# Altium footprint library J1021CS312VDCP20.PcbLib: 1 footprints
Each footprint in its own frame and in the unit in brackets; x right, y up, seen from the top. Pads: shape width x height; smd on the part's side, far side on the other; paste and mask are expansions set on the pad; w line width, h text height; cw(c..) or ccw(c..) is an arc to the next point about the centre after c.
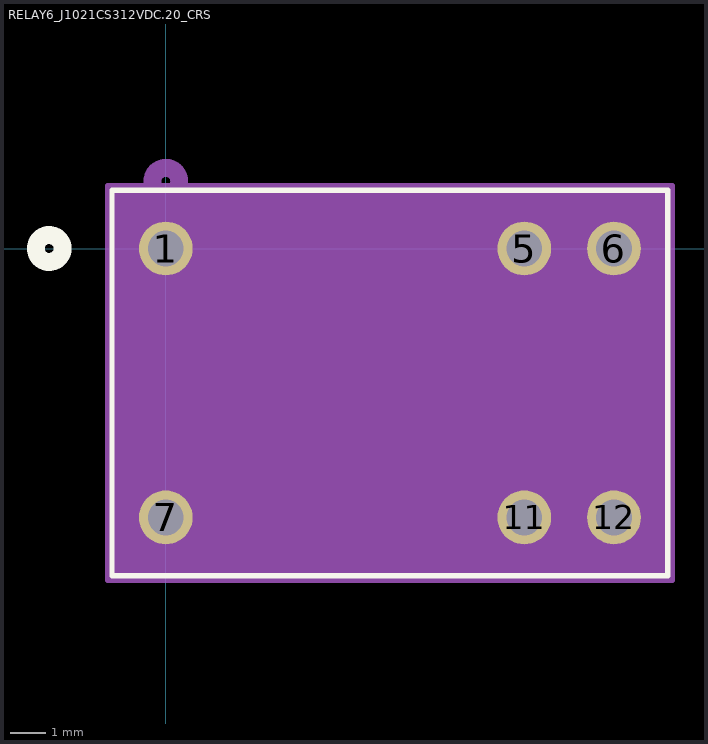
[diagram p0: the footprint, top view; thin cyan lines are the x and y axes]

## RELAY6_J1021CS312VDC.20_CRS [mil]
pads (6):
  round 60 hole 40 paste-30 mask+0: 1(0,0) 5(400,0) 6(500,0) 7(0,-300) 11(400,-300) 12(500,-300)
Top Overlay:
  circle w20: c-130,0 r15
  lines w6: -60,-365 560,-365 560,65 -60,65 -60,-365
Bottom Overlay:
  circle w20: c-130,0 r15
Mechanical 13:
  circle w20: c0,75 r15
  lines w1: -55,-360 555,-360 555,60 -55,60 -55,-360
Mechanical 15:
  region: 565,70 -65,70 -65,-370 565,-370
  lines w6: -65,-370 -65,70 565,70 565,-370 -65,-370